# EAGLE library part 25AA1024-I_SM (library SamacSys_Parts)
1024k, 128K X 8 , 1.8V SER EEPROM IND Source: Datasheet <https://componentsearchengine.com/Datasheets/1/25AA1024-I_SM.pdf>
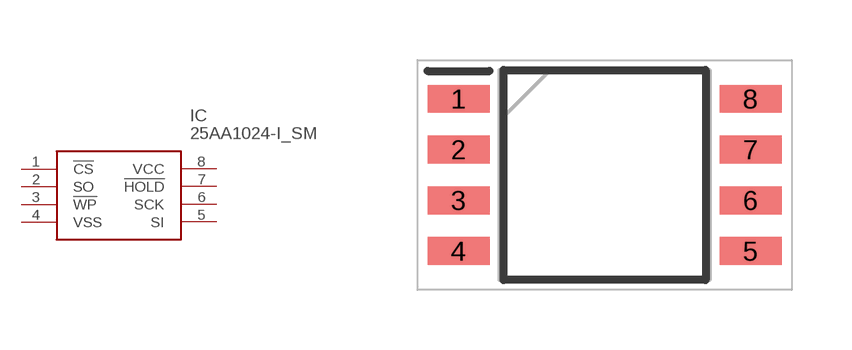
[diagram p0: symbol with the pads of SOIC127P794X203-8N; footprint SOIC127P794X203-8N]

Designator prefix IC

## 25AA1024-I_SM (DESCRIPTION: 1024k, 128K X 8 , 1.8V SER EEPROM IND; HEIGHT: 2.03mm; MANUFACTURER_NAME: Microchip; MANUFACTURER_PART_NUMBER: 25AA1024-I/SM; MOUSER_PART_NUMBER: 579-25AA1024-I/SM)  [SOIC127P794X203-8N]
1  !CS  in
2  SO
3  !WP
4  VSS  pwr
5  SI
6  SCK
7  !HOLD
8  VCC  pwr

## Footprint SOIC127P794X203-8N (pad centres in mm)
8 Lead SM SOIJ
smd 1.55 x 0.7: 1 -3.65,1.905; 2 -3.65,0.635; 3 -3.65,-0.635; 4 -3.65,-1.905; 5 3.65,-1.905; 6 3.65,-0.635; 7 3.65,0.635; 8 3.65,1.905